# Altium schematic symbol library DTM13-12PA.SchLib: 1 symbol
Pins are listed as number, name and electrical type; pins without a type are passive.

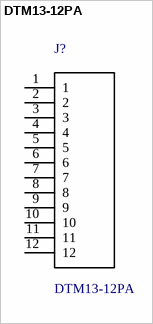
[diagram p0: symbol DTM13-12PA]

## DTM13-12PA
designator J?
DTM Series, 4.19mm Pitch 12 Way 2 Row Right Angle PCB Header, Solder Termination; MF: TE Connectivity; MP: DTM13-12PA-R008; Link: http://www.te.com/usa-en/product-DTM13-12PA-R008.html; EU_RoHS_Compliance: Compliant; Package: None; Availability: Unavailable; SnapEDA_Link: https://www.snapeda.com/parts/DTM13-12PA-R008/TE%20Connectivity%20Deutsch%20Connectors/view-part/?ref=snap; Price: None; Value: *
footprint TE_DTM13-12PA-R008
pins: 1, 2, 3, 4, 5, 6, 7, 8, 9, 10, 11, 12